# Altium integrated library MTMM-101-15-T-D-650.IntLib: 1 symbol
Pins are listed as number, name and electrical type; pins without a type are passive.

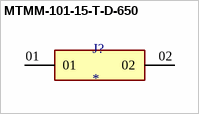
[diagram p0: symbol MTMM-101-15-T-D-650]

## MTMM-101-15-T-D-650
designator J?
Connector Header Through Hole 2 position; MP: MTMM-101-15-T-D-650; MF: Samtec; SnapEDA_Link: https://www.snapeda.com/parts/MTMM-101-15-T-D-650/Samtec/view-part/?ref=snap; Price: None; Purchase-URL: https://pricing.snapeda.com/search/part/MTMM-101-15-T-D-650/?ref=eda; Package: None; Availability: In Stock; Check_prices: https://www.snapeda.com/parts/MTMM-101-15-T-D-650/Samtec/view-part/?ref=eda; Value: *
footprint SAMTEC_MTMM-101-15-T-D-650
pins: 01, 02